# EAGLE library part XC3S*-100 (library jt-xilinx)
Xilinx Spartan 3E - 100 pin
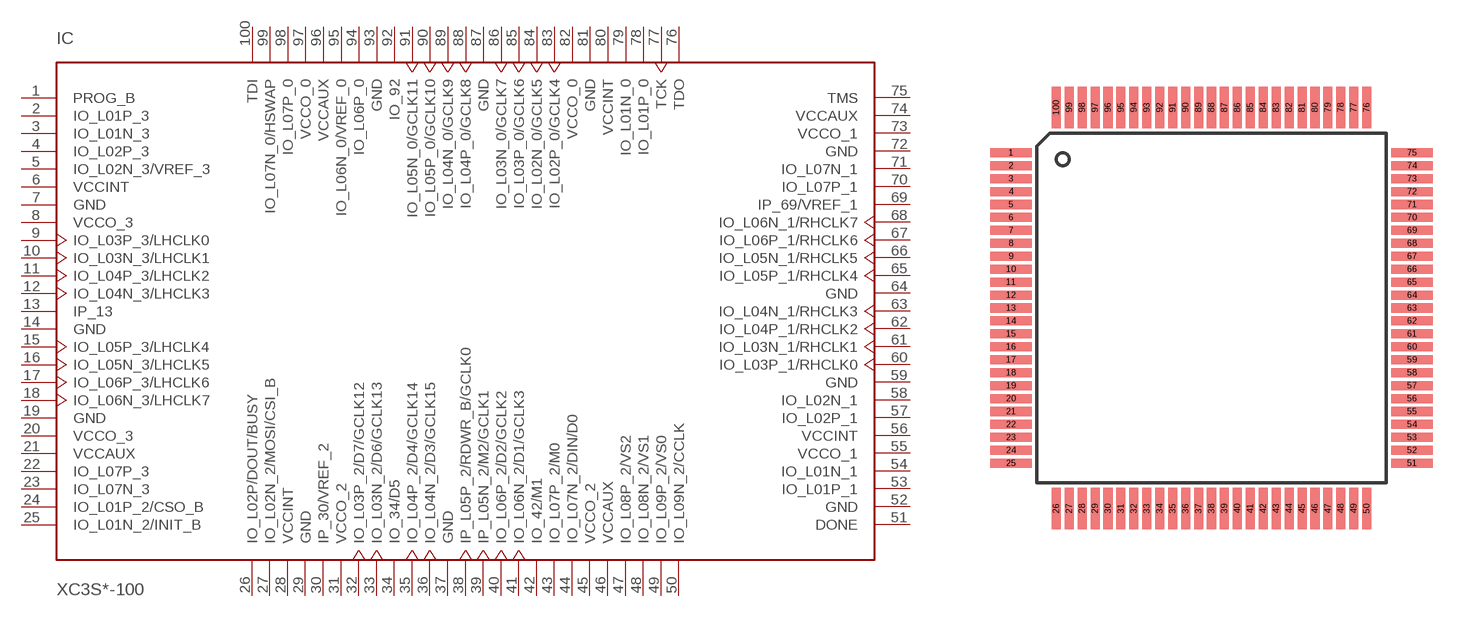
[diagram p1: symbol with the pads of VQ100; footprint VQ100]

Designator prefix IC

## XC3S-100  [VQ100]
1  PROG_B
2  IO_L01P_3
3  IO_L01N_3
4  IO_L02P_3
5  IO_L02N_3/VREF_3
6  VCCINT  pwr
7  GND  pwr
8  VCCO_3  pwr
9  IO_L03P_3/LHCLK0
10  IO_L03N_3/LHCLK1
11  IO_L04P_3/LHCLK2
12  IO_L04N_3/LHCLK3
13  IP_13  in
14  GND  pwr
15  IO_L05P_3/LHCLK4
16  IO_L05N_3/LHCLK5
17  IO_L06P_3/LHCLK6
18  IO_L06N_3/LHCLK7
19  GND  pwr
20  VCCO_3  pwr
21  VCCAUX  pwr
22  IO_L07P_3
23  IO_L07N_3
24  IO_L01P_2/CSO_B
25  IO_L01N_2/INIT_B
26  IO_L02P/DOUT/BUSY
27  IO_L02N_2/MOSI/CSI_B
28  VCCINT  pwr
29  GND  pwr
30  IP_30/VREF_2  in
31  VCCO_2
32  IO_L03P_2/D7/GCLK12
33  IO_L03N_2/D6/GCLK13
34  IO_34/D5
35  IO_L04P_2/D4/GCLK14
36  IO_L04N_2/D3/GCLK15
37  GND  pwr
38  IP_L05P_2/RDWR_B/GCLK0  in
39  IP_L05N_2/M2/GCLK1  in
40  IO_L06P_2/D2/GCLK2
41  IO_L06N_2/D1/GCLK3
42  IO_42/M1
43  IO_L07P_2/M0
44  IO_L07N_2/DIN/D0
45  VCCO_2  pwr
46  VCCAUX  pwr
47  IO_L08P_2/VS2
48  IO_L08N_2/VS1
49  IO_L09P_2/VS0
50  IO_L09N_2/CCLK
51  DONE
52  GND  pwr
53  IO_L01P_1
54  IO_L01N_1
55  VCCO_1  pwr
56  VCCINT  pwr
57  IO_L02P_1
58  IO_L02N_1
59  GND  pwr
60  IO_L03P_1/RHCLK0
61  IO_L03N_1/RHCLK1
62  IO_L04P_1/RHCLK2
63  IO_L04N_1/RHCLK3
64  GND  pwr
65  IO_L05P_1/RHCLK4
66  IO_L05N_1/RHCLK5
67  IO_L06P_1/RHCLK6
68  IO_L06N_1/RHCLK7
69  IP_69/VREF_1
70  IO_L07P_1
71  IO_L07N_1
72  GND  pwr
73  VCCO_1  pwr
74  VCCAUX  pwr
75  TMS  in
76  TDO  out
77  TCK  in
78  IO_L01P_0
79  IO_L01N_0
80  VCCINT  pwr
81  GND  pwr
82  VCCO_0  pwr
83  IO_L02P_0/GCLK4
84  IO_L02N_0/GCLK5
85  IO_L03P_0/GCLK6
86  IO_L03N_0/GCLK7
87  GND  pwr
88  IO_L04P_0/GCLK8
89  IO_L04N_0/GCLK9
90  IO_L05P_0/GCLK10
91  IO_L05N_0/GCLK11
92  IO_92
93  GND  pwr
94  IO_L06P_0
95  IO_L06N_0/VREF_0
96  VCCAUX  pwr
97  VCCO_0  pwr
98  IO_L07P_0
99  IO_L07N_0/HSWAP
100  TDI  in

## Footprint VQ100 (pad centres in mm)
Xilinx VQ100/VQG100 package
smd 1.6 x 0.35: 1 -7.75,6; 2 -7.75,5.5; 3 -7.75,5; 4 -7.75,4.5; 5 -7.75,4; 6 -7.75,3.5; 7 -7.75,3; 8 -7.75,2.5; 9 -7.75,2; 10 -7.75,1.5; 11 -7.75,1; 12 -7.75,0.5; 13 -7.75,0; 14 -7.75,-0.5; 15 -7.75,-1; 16 -7.75,-1.5; 17 -7.75,-2; 18 -7.75,-2.5; 19 -7.75,-3; 20 -7.75,-3.5; 21 -7.75,-4; 22 -7.75,-4.5; 23 -7.75,-5; 24 -7.75,-5.5; 25 -7.75,-6; 51 7.75,-6; 52 7.75,-5.5; 53 7.75,-5; 54 7.75,-4.5; 55 7.75,-4; 56 7.75,-3.5; 57 7.75,-3; 58 7.75,-2.5; 59 7.75,-2; 60 7.75,-1.5; 61 7.75,-1; 62 7.75,-0.5; 63 7.75,0; 64 7.75,0.5; 65 7.75,1; 66 7.75,1.5; 67 7.75,2; 68 7.75,2.5; 69 7.75,3; 70 7.75,3.5; 71 7.75,4; 72 7.75,4.5; 73 7.75,5; 74 7.75,5.5; 75 7.75,6
smd 0.35 x 1.6: 26 -6,-7.75; 27 -5.5,-7.75; 28 -5,-7.75; 29 -4.5,-7.75; 30 -4,-7.75; 31 -3.5,-7.75; 32 -3,-7.75; 33 -2.5,-7.75; 34 -2,-7.75; 35 -1.5,-7.75; 36 -1,-7.75; 37 -0.5,-7.75; 38 0,-7.75; 39 0.5,-7.75; 40 1,-7.75; 41 1.5,-7.75; 42 2,-7.75; 43 2.5,-7.75; 44 3,-7.75; 45 3.5,-7.75; 46 4,-7.75; 47 4.5,-7.75; 48 5,-7.75; 49 5.5,-7.75; 50 6,-7.75; 76 6,7.75; 77 5.5,7.75; 78 5,7.75; 79 4.5,7.75; 80 4,7.75; 81 3.5,7.75; 82 3,7.75; 83 2.5,7.75; 84 2,7.75; 85 1.5,7.75; 86 1,7.75; 87 0.5,7.75; 88 0,7.75; 89 -0.5,7.75; 90 -1,7.75; 91 -1.5,7.75; 92 -2,7.75; 93 -2.5,7.75; 94 -3,7.75; 95 -3.5,7.75; 96 -4,7.75; 97 -4.5,7.75; 98 -5,7.75; 99 -5.5,7.75; 100 -6,7.75